# Altium schematic symbol library АЦП 14-битный.SchLib: 1 symbol
Pins are listed as number, name and electrical type; pins without a type are passive.

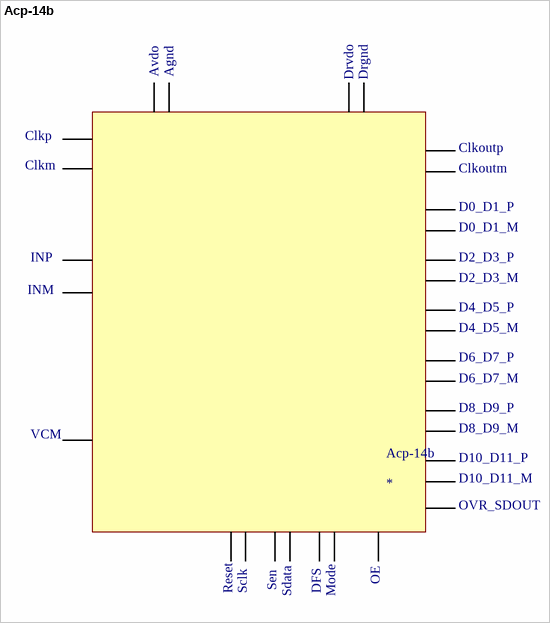
[diagram p0: symbol Acp-14b]

## Acp-14b
designator Acp-14b
pins: 10, 10, 10, 10, 10, 10, 10, 10, 11, 11, 11, 11, 11, 11, 11, 12, 13, 14, 15, 16, 17, 18, 19, 20, 21, 22, 23, 24, 25, 26, 27
text: Avdo; Agnd; Drvdo; Drgnd; Clkp; Clkoutp; Clkm; Clkoutm; D0_D1_P; D0_D1_M; INP; D2_D3_P; D2_D3_M; INM; D4_D5_P; D4_D5_M; D6_D7_P; D6_D7_M; D8_D9_P; VCM; D8_D9_M; D10_D11_P; D10_D11_M; OVR_SDOUT; OE; Sen; Reset; Sclk; Sdata; DFS; Mode